# EAGLE library part JS-5208 (library pepin)
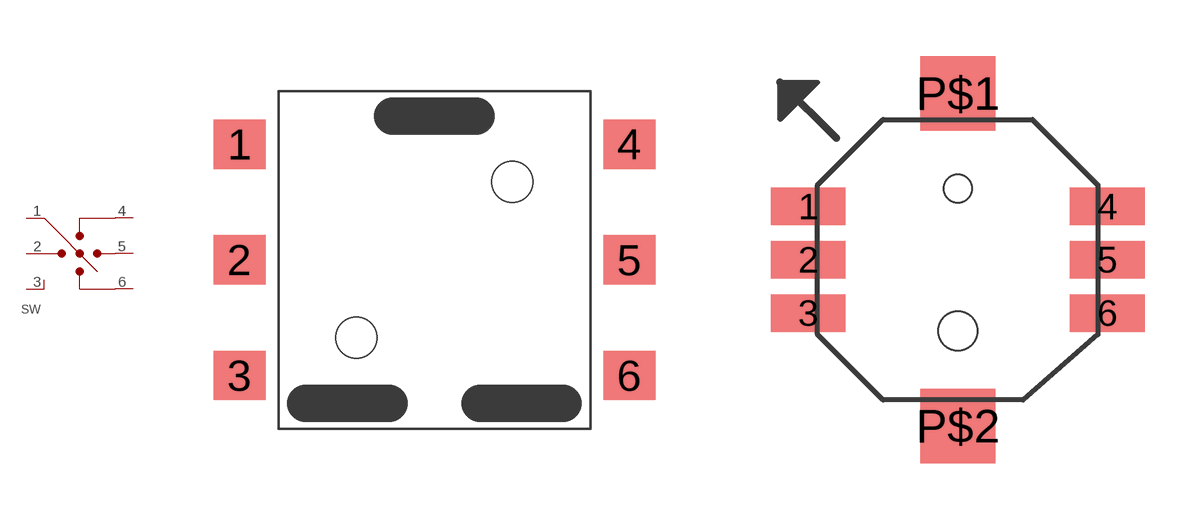
[diagram p27: symbol with the pads of JS-5208; footprints JS-5208, JS1400BFQ]

Designator prefix SW

## JS-5208JS-5208  [JS-5208]
1  C
2  L
3  P
4  U
5  R
6  D

## JS-5208JS1400BFQ  [JS1400BFQ]
1  U
2  P
3  L
4  R
5  C
6  D

## Footprint JS-5208 (pad centres in mm)
smd 2 x 1.9: 1 -7.5,4.45; 2 -7.5,0; 3 -7.5,-4.45; 4 7.5,4.45; 5 7.5,0; 6 7.5,-4.45
hole 1.6 at 3,3
hole 1.6 at -3,-3

## Footprint JS1400BFQ (pad centres in mm)
smd 2 x 1: 1 -4,1.425; 2 -4,0; 3 -4,-1.425; 4 4,1.425; 5 4,0; 6 4,-1.425
smd 2 x 2: P$1 0,4.45; P$2 0,-4.45
hole 0.75 at 0,1.9
hole 1.05 at 0,-1.9